# Altium schematic symbol library ESP-03.SchLib: 1 symbol
Pins are listed as number, name and electrical type; pins without a type are passive.

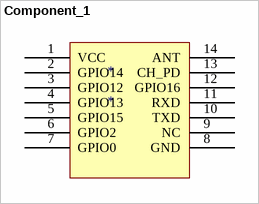
[diagram p0: symbol Component_1]

## Component_1
designator *
pins: 1 VCC, 2 GPIO14, 3 GPIO12, 4 GPIO13, 5 GPIO15, 6 GPIO2, 7 GPIO0, 8 GND, 9 NC, 10 TXD, 11 RXD, 12 GPIO16, 13 CH_PD, 14 ANT